# Altium footprint library myPCB.PcbLib: 7 footprints
Each footprint in its own frame and in the unit in brackets; x right, y up, seen from the top. Pads: shape width x height; smd on the part's side, far side on the other; paste and mask are expansions set on the pad; w line width, h text height; cw(c..) or ccw(c..) is an arc to the next point about the centre after c.
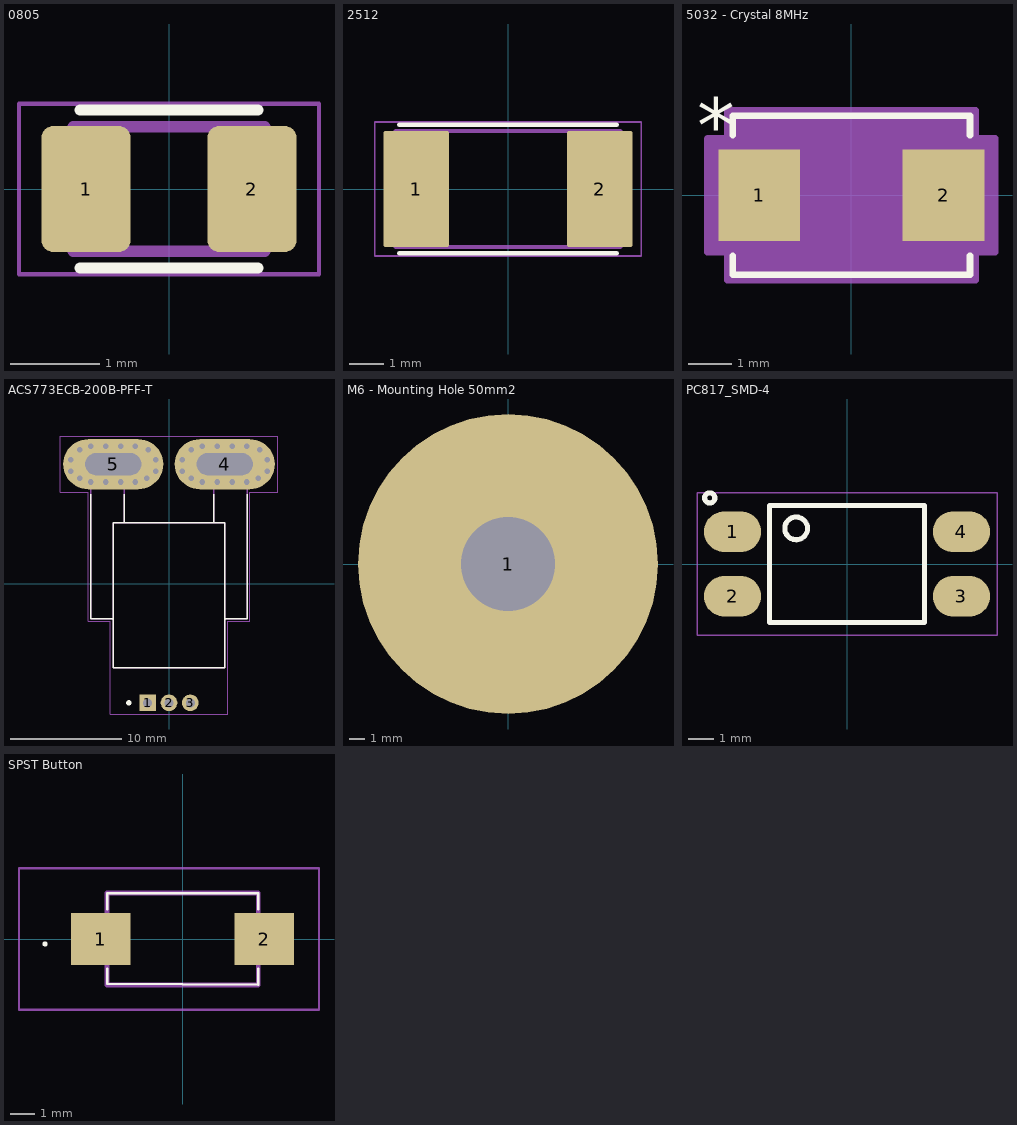
[diagram p0: the footprints below, top view; thin cyan lines are the x and y axes]

## 0805 [mm]
pads (2):
  rrect25% 1x1.42 smd: 1(-0.935,0) 2(0.935,0)
Top Overlay:
  lines w0.127: -1,-0.89 1,-0.89 ; -1,0.89 1,0.89
Mechanical 13:
  lines w0.127: -1.08,-0.7 -1.08,0.7 1.08,0.7 1.08,-0.7 -1.08,-0.7
Mechanical 15:
  lines w0.05: -1.69,-0.96 -1.69,0.96 1.69,0.96 1.69,-0.96 -1.69,-0.96
3D body "step_temp.STEP": height 0.6, standoff 0, extent -1,-0.625 1,0.625

## 2512 [mm]
pads (2):
  rrect7% 1.9x3.37 smd: 1(-2.66,0) 2(2.66,0)
Top Overlay:
  lines w0.127: -3.15,-1.865 3.15,-1.865 ; -3.15,1.865 3.15,1.865
Mechanical 13:
  lines w0.127: -3.25,-1.68 -3.25,1.68 3.25,1.68 3.25,-1.68 -3.25,-1.68
Mechanical 15:
  lines w0.05: -3.86,-1.94 -3.86,1.94 3.86,1.94 3.86,-1.94 -3.86,-1.94
3D body "2-1625827-1.STEP": height 0.65, standoff 0, extent -3.048,-1.727 3.302,1.473

## 5032 - Crystal 8MHz [mil] "5032"
pads (2):
  rect 74x83 smd paste+0 mask+0: 1(-83.5,0) 2(83.5,0)
Top Overlay:
  lines w6: -107.5,-54.6 -107.5,-72 107.5,-72 107.5,-54.6 ; -107.5,54.6 -107.5,72 107.5,72 107.5,54.6
  text "*" at -140,38.5 h50
Mechanical 13:
  lines w0: -102.5,-29.5 ccw(c-102.5,0) -102.5,29.5 ; 102.5,-29.5 cw(c102.5,0) 102.5,29.5
  lines w1: -102.5,-29.5 -102.5,-67 102.5,-67 102.5,-29.5 ; -102.5,29.5 -102.5,67 102.5,67 102.5,29.5 ; -102.5,57 -92.5,67
  text "*" at -90,13.5 h50
Mechanical 15:
  region: -112.5,-51.5 -130.5,-51.5 -130.5,51.5 -112.5,51.5 -112.5,77 112.5,77 112.5,51.5 130.5,51.5 130.5,-51.5 112.5,-51.5 112.5,-77 -112.5,-77
  lines w6: -130.5,-51.5 -112.5,-51.5 -112.5,-77 112.5,-77 112.5,-51.5 130.5,-51.5 130.5,51.5 112.5,51.5 112.5,77 -112.5,77 -112.5,51.5 -130.5,51.5 -130.5,-51.5

## ACS773ECB-200B-PFF-T [mm]
pads (37):
  rect 1.5x1.5 / inner round 1.5 / far side rect 1.5x1.5 hole 0.8: 1(-1.91,-10.7)
  round 1.5 hole 0.8: 2(0,-10.7) 3(1.91,-10.7)
  oval 9x4.5 hole 2 slot 5 at 0 deg: 4(5,10.7) 5(-5,10.7)
  round 0.8 hole 0.5: 4_1(3,9.1) 4_2(4.33,9.1) 4_3(5.66,9.1) 4_4(6.99,9.1) 4_5(8,9.43) 4_6(8.8,10.05) 4_7(8.8,11.1) 4_8(8.15,12) 4_9(6.99,12.3) 4_10(5.66,12.3) 4_11(4.33,12.3) 4_12(3,12.3) 4_13(2,12) 4_14(1.2,11.1) 4_15(1.2,10.05) 4_16(2,9.43) 5_1(-7,9.1) 5_2(-5.67,9.1) 5_3(-4.34,9.1) 5_4(-3.01,9.1) 5_5(-8,9.43) 5_6(-8.8,10.05) 5_7(-8.8,11.1) 5_8(-8,12) 5_9(-7,12.3) 5_10(-5.67,12.3) 5_11(-4.34,12.3) 5_12(-3.01,12.3) 5_13(-1.85,12) 5_14(-1.2,11.1) 5_15(-1.2,10.05) 5_16(-2,9.43)
Top Overlay:
  circle w0.24: c-3.6,-10.7 r0.12
  lines w0.127: -7,8 -7,-3.15 -5,-3.15 ; -4,8 -4,5.45 ; 4,8 4,5.45 ; 7,8 7,-3.15 5,-3.15 ; -5,-3.15 -5,5.45 -4,5.45 ; -5,-3.15 -5,-7.55 5,-7.55 5,-3.15 ; -4,5.45 4,5.45 ; 4,5.45 5,5.45 5,-3.15
Mechanical 1:
  lines w0: -5,11.7 -4.95,11.7 ; 5,11.7 5.05,11.7 ; -7,9.7 cw(c-7,10.7) -7,11.7 -3,11.7 cw(c-3,10.7) -3,9.7 -7,9.7 ; 3,9.7 cw(c3,10.7) 3,11.7 7,11.7 cw(c7,10.7) 7,9.7 3,9.7
Mechanical 13:
  lines w0.127: -5,-3.15 -7,-3.15 -7,11.45 -4,11.45 -4,5.45 ; -5,-3.15 -5,5.45 -4,5.45 ; -5,-3.15 -5,-7.55 5,-7.55 5,-3.15 ; -4,5.45 4,5.45 ; 4,5.45 4,11.45 7,11.45 7,-3.15 5,-3.15 ; 4,5.45 5,5.45 5,-3.15
Mechanical 15:
  lines w0.05: -9.75,8.2 -9.75,13.2 9.75,13.2 9.75,8.2 7.25,8.2 7.25,-3.4 5.25,-3.4 5.25,-11.7 -5.25,-11.7 -5.25,-3.4 -7.25,-3.4 -7.25,8.2 -9.75,8.2
3D body "step_temp.STEP": height 8, standoff -3.7, extent -7,-11.153 7,11.45

## M6 - Mounting Hole 50mm2 [mm]
pads (1):
  round 20 / inner round 1.524 / far side round 20 hole 6.3: 1(0,0)

## PC817_SMD-4 [mm]
pads (4):
  oval 2.25x1.6 smd: 1(-4.5,1.27) 2(-4.5,-1.27) 3(4.5,-1.27) 4(4.5,1.27)
Top Overlay:
  circle w0.2: c-2,1.4 r0.447
  circle w0.2: c-5.4,2.6 r0.2
  lines w0.2: -3.05,-2.3 3.05,-2.3 3.05,2.3 -3.05,2.3 -3.05,-2.3
Mechanical 15:
  lines w0.05: -5.9,-2.8 5.9,-2.8 5.9,2.8 -5.9,2.8 -5.9,-2.8
3D body "step_temp.STEP": height 4, standoff 0, extent -4.875,-2.29 4.875,2.29

## SPST Button [mm] "3mmx6mm"
pads (2):
  rect 2.4x2.1 smd: 1(-3.3,0) 2(3.3,0)
Top Overlay:
  lines w0.1: -3.05,-1.2 -3.05,-1.8 3.05,-1.85 3.05,-1.2 ; -3.05,1.2 -3.05,1.85 3.05,1.85 3.05,1.2 ; -5.6,-0.2 ccw(c-5.55,-0.2) -5.5,-0.2 ccw(c-5.55,-0.2) -5.6,-0.2
Mechanical 13:
  lines w0.1: -6.6,-2.85 5.5,-2.85 5.5,2.85 -6.6,2.85 -6.6,-2.85
  lines w0.2: -3.05,-1.85 3.05,-1.85 3.05,1.85 -3.05,1.85 -3.05,-1.85
3D body "step_temp.STEP": height 2.8, standoff 0, extent -4.29,-1.85 4.29,1.85